# Altium schematic symbol library IRL540NSTRLPBF.SchLib: 1 symbol
Pins are listed as number, name and electrical type; pins without a type are passive.

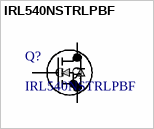
[diagram p0: symbol IRL540NSTRLPBF]

## IRL540NSTRLPBF
designator Q?
Description; Manufacturer_Name: Infineon; Copyright: Copyright (C) 2025 Ultra Librarian. All rights reserved.; Manufacturer_Part_Number: IRL540NSTRLPBF
footprint NMOSGSD_D2PAK_IRL540NSTRLPBF_INF
pins: 1 G, 2 S, 3 D